# Altium footprint library SOP.PcbLib: 64 footprints (part 1 of 4)
Each footprint in its own frame and in the unit in brackets; x right, y up, seen from the top. Pads: shape width x height; smd on the part's side, far side on the other; paste and mask are expansions set on the pad; w line width, h text height; cw(c..) or ccw(c..) is an arc to the next point about the centre after c.
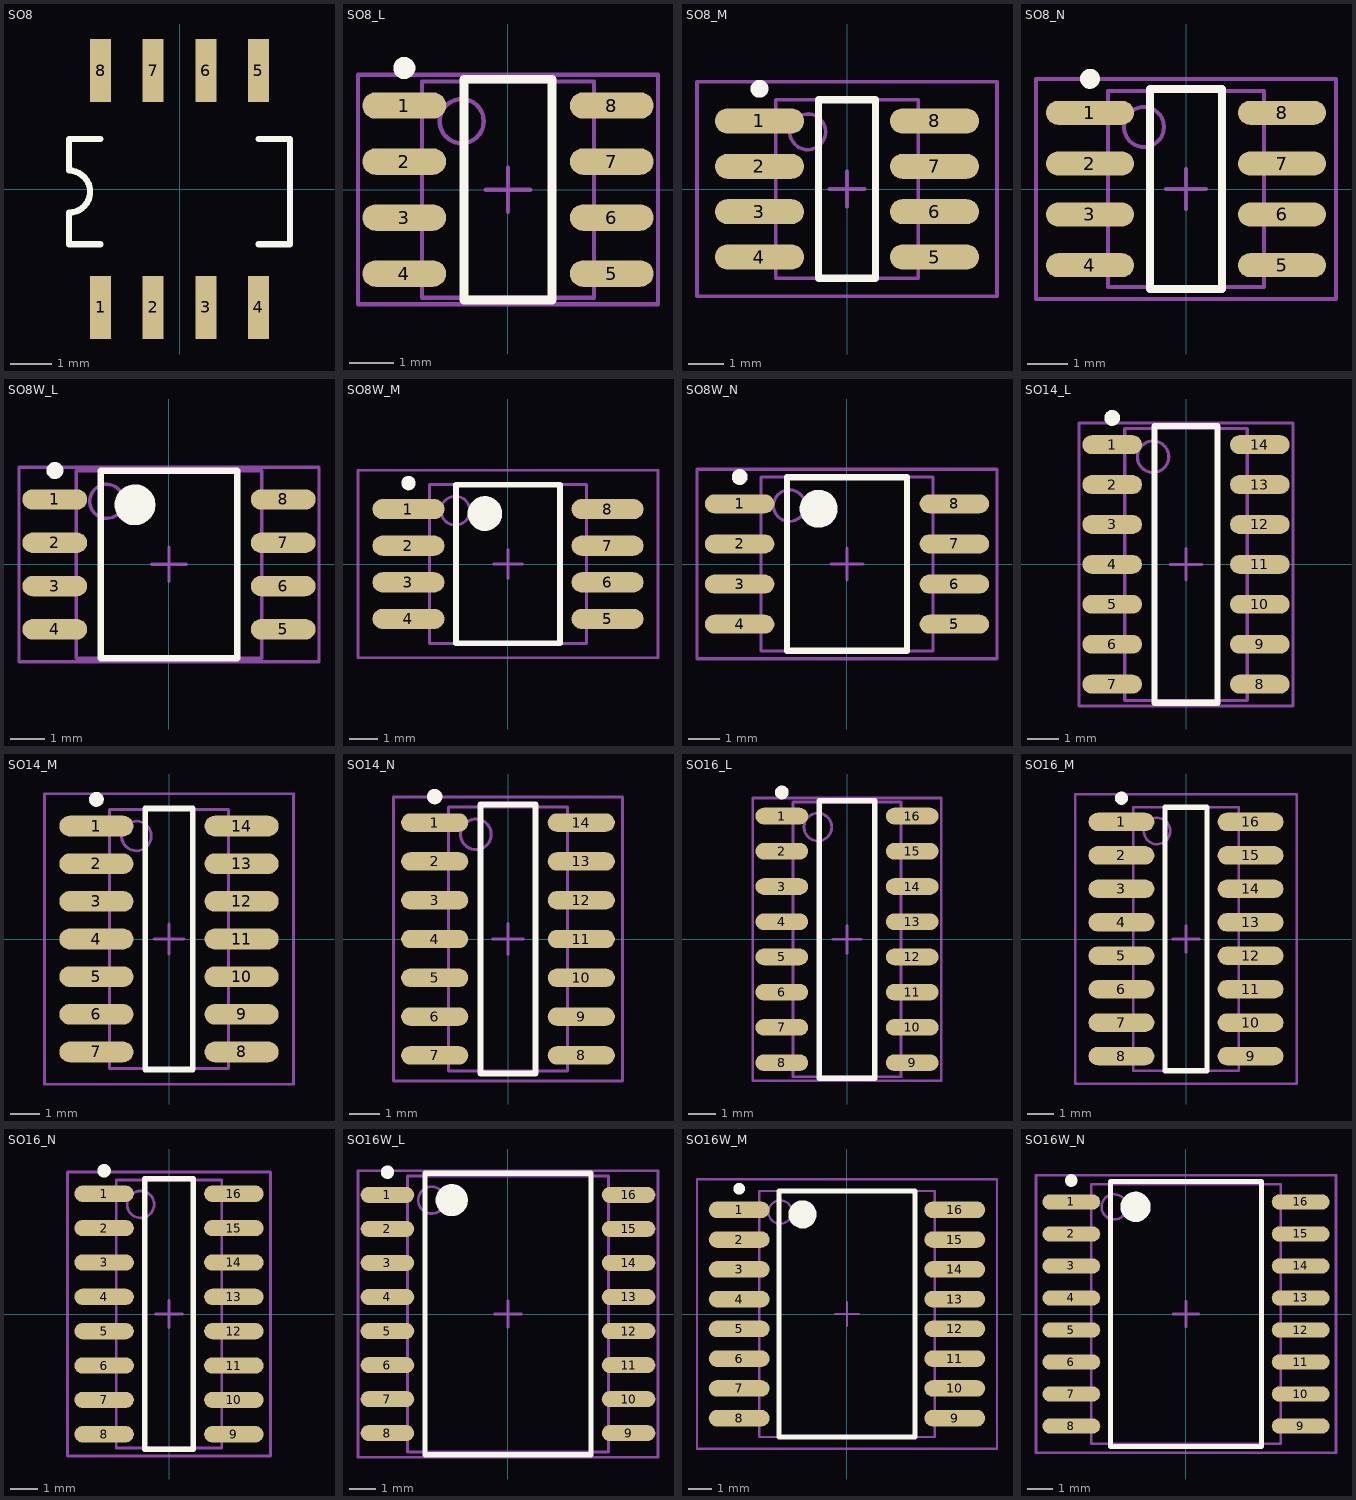
[diagram p0: the footprints below, top view; thin cyan lines are the x and y axes]

## SO8 [mil]
pads (8):
  rect 20x60 smd: 1(-75,-112.5) 2(-25,-112.5) 3(25,-112.5) 4(75,-112.5) 5(75,112.5) 6(25,112.5) 7(-25,112.5) 8(-75,112.5)
Top Overlay:
  lines w6: -75,-52.5 -105,-52.5 -105,-22.5 ccw(c-105,-2.5) -105,17.5 -105,47.5 -75,47.5 ; 75,-52.5 105,-52.5 105,47.5 75,47.5
3D body: height 83.86, standoff 0, extent -107.28,-108.27 107.28,108.27

## SO8_L [mm] "8-Pin Small Outline Integrated Circuit 1.27 mm Pitch, IPC High Density"
height 1.75
pads (8):
  oval 1.9x0.6 smd: 1(-2.35,1.905) 2(-2.35,0.635) 3(-2.35,-0.635) 4(-2.35,-1.905) 5(2.35,-1.905) 6(2.35,-0.635) 7(2.35,0.635) 8(2.35,1.905)
Top Overlay:
  circle w0.25: c-2.35,2.755 r0.125
  lines w0.2: -1,-2.5 1,-2.5 1,2.5 -1,2.5 -1,-2.5
Mechanical 13:
  circle w0.1: c-1.05,1.55 r0.5
  lines w0.1: -1.95,-2.45 1.95,-2.45 1.95,2.45 -1.95,2.45 -1.95,-2.45
Mechanical 15:
  lines w0.1: -0.5,0 0.5,0 ; 0,-0.5 0,0.5 ; -3.4,-2.6 3.4,-2.6 3.4,2.6 -3.4,2.6 -3.4,-2.6
3D body: height 1.75, standoff 0, extent -1.95,-2.45 1.95,2.45

## SO8_M [mm] "8-Pin Small Outline Integrated Circuit 1.27 mm Pitch, IPC Low Density"
height 1.75
pads (8):
  oval 2.5x0.7 smd: 1(-2.45,1.905) 2(-2.45,0.635) 3(-2.45,-0.635) 4(-2.45,-1.905) 5(2.45,-1.905) 6(2.45,-0.635) 7(2.45,0.635) 8(2.45,1.905)
Top Overlay:
  circle w0.25: c-2.45,2.805 r0.125
  lines w0.2: -0.8,-2.5 0.8,-2.5 0.8,2.5 -0.8,2.5 -0.8,-2.5
Mechanical 13:
  circle w0.1: c-1.1,1.6 r0.5
  lines w0.1: -2,-2.5 2,-2.5 2,2.5 -2,2.5 -2,-2.5
Mechanical 15:
  lines w0.1: -0.5,0 0.5,0 ; 0,-0.5 0,0.5 ; -4.2,-3 4.2,-3 4.2,3 -4.2,3 -4.2,-3
3D body: height 1.75, standoff 0, extent -2,-2.5 2,2.5

## SO8_N [mm] "8-Pin Small Outline Integrated Circuit 1.27 mm Pitch, IPC Medium Density"
height 1.75
pads (8):
  oval 2.2x0.6 smd: 1(-2.4,1.905) 2(-2.4,0.635) 3(-2.4,-0.635) 4(-2.4,-1.905) 5(2.4,-1.905) 6(2.4,-0.635) 7(2.4,0.635) 8(2.4,1.905)
Top Overlay:
  circle w0.25: c-2.4,2.755 r0.125
  lines w0.2: -0.9,-2.5 -0.9,2.5 0.9,2.5 0.9,-2.5 -0.9,-2.5
Mechanical 13:
  circle w0.1: c-1.05,1.55 r0.5
  lines w0.1: -1.95,-2.45 -1.95,2.45 1.95,2.45 1.95,-2.45 -1.95,-2.45
Mechanical 15:
  lines w0.1: -0.5,0 0.5,0 ; 0,-0.5 0,0.5 ; -3.75,-2.75 -3.75,2.75 3.75,2.75 3.75,-2.75 -3.75,-2.75
3D body: height 1.75, standoff 0, extent -1.95,-2.45 1.95,2.45

## SO8W_L [mm] "8-Pin Small Outline Package 1.27 mm Pitch, IPC High Density"
height 2.13
pads (8):
  oval 1.9x0.6 smd: 1(-3.35,1.905) 2(-3.35,0.635) 3(-3.35,-0.635) 4(-3.35,-1.905) 5(3.35,-1.905) 6(3.35,-0.635) 7(3.35,0.635) 8(3.35,1.905)
Top Overlay:
  circle w0.6: c-1,1.75 r0.3
  circle w0.25: c-3.35,2.755 r0.125
  lines w0.2: -2,-2.75 2,-2.75 2,2.75 -2,2.75 -2,-2.75
Mechanical 13:
  circle w0.1: c-1.825,1.85 r0.5
  lines w0.1: -2.725,-2.75 2.725,-2.75 2.725,2.75 -2.725,2.75 -2.725,-2.75
Mechanical 15:
  lines w0.1: -0.5,0 0.5,0 ; 0,-0.5 0,0.5 ; -4.4,-2.85 4.4,-2.85 4.4,2.85 -4.4,2.85 -4.4,-2.85
3D body: height 2.13, standoff 0, extent -2.725,-2.75 2.725,2.75

## SO8W_M [mm] "8-Pin Small Outline Package 1.27 mm Pitch, IPC Low Density"
height 2.13
pads (8):
  oval 2.5x0.7 smd: 1(-3.45,1.905) 2(-3.45,0.635) 3(-3.45,-0.635) 4(-3.45,-1.905) 5(3.45,-1.905) 6(3.45,-0.635) 7(3.45,0.635) 8(3.45,1.905)
Top Overlay:
  circle w0.25: c-3.45,2.805 r0.125
  circle w0.6: c-0.8,1.75 r0.3
  lines w0.2: -1.8,-2.75 -1.8,2.75 1.8,2.75 1.8,-2.75 -1.8,-2.75
Mechanical 13:
  circle w0.1: c-1.825,1.85 r0.5
  lines w0.1: -2.725,-2.75 -2.725,2.75 2.725,2.75 2.725,-2.75 -2.725,-2.75
Mechanical 15:
  lines w0.1: -0.5,0 0.5,0 ; 0,-0.5 0,0.5 ; -5.2,-3.25 -5.2,3.25 5.2,3.25 5.2,-3.25 -5.2,-3.25
3D body: height 2.13, standoff 0, extent -2.725,-2.75 2.725,2.75

## SO8W_N [mm] "8-Pin Small Outline Package 1.27 mm Pitch, IPC Medium Density"
height 2.13
pads (8):
  oval 2.2x0.6 smd: 1(-3.4,1.905) 2(-3.4,0.635) 3(-3.4,-0.635) 4(-3.4,-1.905) 5(3.4,-1.905) 6(3.4,-0.635) 7(3.4,0.635) 8(3.4,1.905)
Top Overlay:
  circle w0.6: c-0.9,1.75 r0.3
  circle w0.25: c-3.4,2.755 r0.125
  lines w0.2: -1.9,-2.75 1.9,-2.75 1.9,2.75 -1.9,2.75 -1.9,-2.75
Mechanical 13:
  circle w0.1: c-1.825,1.85 r0.5
  lines w0.1: -2.725,-2.75 2.725,-2.75 2.725,2.75 -2.725,2.75 -2.725,-2.75
Mechanical 15:
  lines w0.1: -0.5,0 0.5,0 ; 0,-0.5 0,0.5 ; -4.75,-3 4.75,-3 4.75,3 -4.75,3 -4.75,-3
3D body: height 2.13, standoff 0, extent -2.725,-2.75 2.725,2.75

## SO14_L [mm] "14-Pin Small Outline Integrated Circuit 1.27 mm Pitch, IPC High Density"
height 1.75
pads (14):
  oval 1.9x0.6 smd: 1(-2.35,3.81) 2(-2.35,2.54) 3(-2.35,1.27) 4(-2.35,0) 5(-2.35,-1.27) 6(-2.35,-2.54) 7(-2.35,-3.81) 8(2.35,-3.81) 9(2.35,-2.54) 10(2.35,-1.27) 11(2.35,0) 12(2.35,1.27) 13(2.35,2.54) 14(2.35,3.81)
Top Overlay:
  circle w0.25: c-2.35,4.66 r0.125
  lines w0.2: -1,-4.4 -1,4.4 1,4.4 1,-4.4 -1,-4.4
Mechanical 13:
  circle w0.1: c-1.05,3.425 r0.5
  lines w0.1: -1.95,-4.325 -1.95,4.325 1.95,4.325 1.95,-4.325 -1.95,-4.325
Mechanical 15:
  lines w0.1: -0.5,0 0.5,0 ; 0,-0.5 0,0.5 ; -3.4,-4.5 -3.4,4.5 3.4,4.5 3.4,-4.5 -3.4,-4.5
3D body: height 1.75, standoff 0, extent -1.95,-4.325 1.95,4.325

## SO14_M [mm] "14-Pin Small Outline Integrated Circuit 1.27 mm Pitch, IPC Low Density"
height 1.75
pads (14):
  oval 2.5x0.7 smd: 1(-2.45,3.81) 2(-2.45,2.54) 3(-2.45,1.27) 4(-2.45,0) 5(-2.45,-1.27) 6(-2.45,-2.54) 7(-2.45,-3.81) 8(2.45,-3.81) 9(2.45,-2.54) 10(2.45,-1.27) 11(2.45,0) 12(2.45,1.27) 13(2.45,2.54) 14(2.45,3.81)
Top Overlay:
  circle w0.25: c-2.45,4.71 r0.125
  lines w0.2: -0.8,-4.4 -0.8,4.4 0.8,4.4 0.8,-4.4 -0.8,-4.4
Mechanical 13:
  circle w0.1: c-1.1,3.475 r0.5
  lines w0.1: -2,-4.375 -2,4.375 2,4.375 2,-4.375 -2,-4.375
Mechanical 15:
  lines w0.1: -0.5,0 0.5,0 ; 0,-0.5 0,0.5 ; -4.2,-4.9 -4.2,4.9 4.2,4.9 4.2,-4.9 -4.2,-4.9
3D body: height 1.75, standoff 0, extent -2,-4.375 2,4.375

## SO14_N [mm] "14-Pin Small Outline Integrated Circuit 1.27 mm Pitch, IPC Medium Density"
height 1.75
pads (14):
  oval 2.2x0.6 smd: 1(-2.4,3.81) 2(-2.4,2.54) 3(-2.4,1.27) 4(-2.4,0) 5(-2.4,-1.27) 6(-2.4,-2.54) 7(-2.4,-3.81) 8(2.4,-3.81) 9(2.4,-2.54) 10(2.4,-1.27) 11(2.4,0) 12(2.4,1.27) 13(2.4,2.54) 14(2.4,3.81)
Top Overlay:
  circle w0.25: c-2.4,4.66 r0.125
  lines w0.2: -0.9,-4.4 0.9,-4.4 0.9,4.4 -0.9,4.4 -0.9,-4.4
Mechanical 13:
  circle w0.1: c-1.05,3.425 r0.5
  lines w0.1: -1.95,-4.325 1.95,-4.325 1.95,4.325 -1.95,4.325 -1.95,-4.325
Mechanical 15:
  lines w0.1: -0.5,0 0.5,0 ; 0,-0.5 0,0.5 ; -3.75,-4.65 3.75,-4.65 3.75,4.65 -3.75,4.65 -3.75,-4.65
3D body: height 1.75, standoff 0, extent -1.95,-4.325 1.95,4.325

## SO16_L [mm] "16-Pin Small Outline Integrated Circuit 1.27 mm Pitch, IPC High Density"
height 1.75
pads (16):
  oval 1.9x0.6 smd: 1(-2.35,4.445) 2(-2.35,3.175) 3(-2.35,1.905) 4(-2.35,0.635) 5(-2.35,-0.635) 6(-2.35,-1.905) 7(-2.35,-3.175) 8(-2.35,-4.445) 9(2.35,-4.445) 10(2.35,-3.175) 11(2.35,-1.905) 12(2.35,-0.635) 13(2.35,0.635) 14(2.35,1.905) 15(2.35,3.175) 16(2.35,4.445)
Top Overlay:
  circle w0.25: c-2.35,5.295 r0.125
  lines w0.2: -1,-5 -1,5 1,5 1,-5 -1,-5
Mechanical 13:
  circle w0.1: c-1.05,4.05 r0.5
  lines w0.1: -1.95,-4.95 -1.95,4.95 1.95,4.95 1.95,-4.95 -1.95,-4.95
Mechanical 15:
  lines w0.1: -0.5,0 0.5,0 ; 0,-0.5 0,0.5 ; -3.4,-5.1 -3.4,5.1 3.4,5.1 3.4,-5.1 -3.4,-5.1
3D body: height 1.75, standoff 0, extent -1.95,-4.95 1.95,4.95

## SO16_M [mm] "16-Pin Small Outline Integrated Circuit 1.27 mm Pitch, IPC Low Density"
height 1.75
pads (16):
  oval 2.5x0.7 smd: 1(-2.45,4.445) 2(-2.45,3.175) 3(-2.45,1.905) 4(-2.45,0.635) 5(-2.45,-0.635) 6(-2.45,-1.905) 7(-2.45,-3.175) 8(-2.45,-4.445) 9(2.45,-4.445) 10(2.45,-3.175) 11(2.45,-1.905) 12(2.45,-0.635) 13(2.45,0.635) 14(2.45,1.905) 15(2.45,3.175) 16(2.45,4.445)
Top Overlay:
  circle w0.25: c-2.45,5.345 r0.125
  lines w0.2: -0.8,-5 -0.8,5 0.8,5 0.8,-5 -0.8,-5
Mechanical 13:
  circle w0.1: c-1.1,4.1 r0.5
  lines w0.1: -2,-5 -2,5 2,5 2,-5 -2,-5
Mechanical 15:
  lines w0.1: -0.5,0 0.5,0 ; 0,-0.5 0,0.5 ; -4.2,-5.5 -4.2,5.5 4.2,5.5 4.2,-5.5 -4.2,-5.5
3D body: height 1.75, standoff 0, extent -2,-5 2,5

## SO16_N [mm] "16-Pin Small Outline Integrated Circuit 1.27 mm Pitch, IPC Medium Density"
height 1.75
pads (16):
  oval 2.2x0.6 smd: 1(-2.4,4.445) 2(-2.4,3.175) 3(-2.4,1.905) 4(-2.4,0.635) 5(-2.4,-0.635) 6(-2.4,-1.905) 7(-2.4,-3.175) 8(-2.4,-4.445) 9(2.4,-4.445) 10(2.4,-3.175) 11(2.4,-1.905) 12(2.4,-0.635) 13(2.4,0.635) 14(2.4,1.905) 15(2.4,3.175) 16(2.4,4.445)
Top Overlay:
  circle w0.25: c-2.4,5.295 r0.125
  lines w0.2: -0.9,-5 0.9,-5 0.9,5 -0.9,5 -0.9,-5
Mechanical 13:
  circle w0.1: c-1.05,4.05 r0.5
  lines w0.1: -1.95,-4.95 1.95,-4.95 1.95,4.95 -1.95,4.95 -1.95,-4.95
Mechanical 15:
  lines w0.1: -0.5,0 0.5,0 ; 0,-0.5 0,0.5 ; -3.75,-5.25 3.75,-5.25 3.75,5.25 -3.75,5.25 -3.75,-5.25
3D body: height 1.75, standoff 0, extent -1.95,-4.95 1.95,4.95

## SO16W_L [mm] "16-Pin Small Outline Integrated Circuit 1.27 mm Pitch, IPC High Density"
height 2.65
pads (16):
  oval 2x0.6 smd: 1(-4.5,4.445) 2(-4.5,3.175) 3(-4.5,1.905) 4(-4.5,0.635) 5(-4.5,-0.635) 6(-4.5,-1.905) 7(-4.5,-3.175) 8(-4.5,-4.445) 9(4.5,-4.445) 10(4.5,-3.175) 11(4.5,-1.905) 12(4.5,-0.635) 13(4.5,0.635) 14(4.5,1.905) 15(4.5,3.175) 16(4.5,4.445)
Top Overlay:
  circle w0.6: c-2.1,4.25 r0.3
  circle w0.25: c-4.5,5.295 r0.125
  lines w0.2: -3.1,-5.25 3.1,-5.25 3.1,5.25 -3.1,5.25 -3.1,-5.25
Mechanical 13:
  circle w0.1: c-2.85,4.25 r0.5
  lines w0.1: -3.75,-5.15 3.75,-5.15 3.75,5.15 -3.75,5.15 -3.75,-5.15
Mechanical 15:
  lines w0.1: -0.5,0 0.5,0 ; 0,-0.5 0,0.5 ; -5.6,-5.35 5.6,-5.35 5.6,5.35 -5.6,5.35 -5.6,-5.35
3D body: height 2.65, standoff 0, extent -3.75,-5.15 3.75,5.15

## SO16W_M [mm] "16-Pin Small Outline Integrated Circuit 1.27 mm Pitch, IPC Low Density"
height 2.65
pads (16):
  oval 2.6x0.7 smd: 1(-4.6,4.445) 2(-4.6,3.175) 3(-4.6,1.905) 4(-4.6,0.635) 5(-4.6,-0.635) 6(-4.6,-1.905) 7(-4.6,-3.175) 8(-4.6,-4.445) 9(4.6,-4.445) 10(4.6,-3.175) 11(4.6,-1.905) 12(4.6,-0.635) 13(4.6,0.635) 14(4.6,1.905) 15(4.6,3.175) 16(4.6,4.445)
Top Overlay:
  circle w0.25: c-4.6,5.345 r0.125
  circle w0.6: c-1.9,4.25 r0.3
  lines w0.2: -2.9,-5.25 -2.9,5.25 2.9,5.25 2.9,-5.25 -2.9,-5.25
Mechanical 13:
  circle w0.1: c-2.85,4.35 r0.5
  lines w0.1: -3.75,-5.25 -3.75,5.25 3.75,5.25 3.75,-5.25 -3.75,-5.25
Mechanical 15:
  lines w0.1: -0.5,0 0.5,0 ; 0,-0.5 0,0.5 ; -6.4,-5.75 -6.4,5.75 6.4,5.75 6.4,-5.75 -6.4,-5.75
3D body: height 2.65, standoff 0, extent -3.75,-5.25 3.75,5.25

## SO16W_N [mm] "16-Pin Small Outline Integrated Circuit 1.27 mm Pitch, IPC Medium Density"
height 2.65
pads (16):
  oval 2.3x0.6 smd: 1(-4.55,4.445) 2(-4.55,3.175) 3(-4.55,1.905) 4(-4.55,0.635) 5(-4.55,-0.635) 6(-4.55,-1.905) 7(-4.55,-3.175) 8(-4.55,-4.445) 9(4.55,-4.445) 10(4.55,-3.175) 11(4.55,-1.905) 12(4.55,-0.635) 13(4.55,0.635) 14(4.55,1.905) 15(4.55,3.175) 16(4.55,4.445)
Top Overlay:
  circle w0.6: c-2,4.25 r0.3
  circle w0.25: c-4.55,5.295 r0.125
  lines w0.2: -3,-5.25 3,-5.25 3,5.25 -3,5.25 -3,-5.25
Mechanical 13:
  circle w0.1: c-2.85,4.25 r0.5
  lines w0.1: -3.75,-5.15 3.75,-5.15 3.75,5.15 -3.75,5.15 -3.75,-5.15
Mechanical 15:
  lines w0.1: -0.5,0 0.5,0 ; 0,-0.5 0,0.5 ; -5.95,-5.5 5.95,-5.5 5.95,5.5 -5.95,5.5 -5.95,-5.5
3D body: height 2.65, standoff 0, extent -3.75,-5.15 3.75,5.15